# EAGLE library part TCA965B (library 0_HTL_ic)
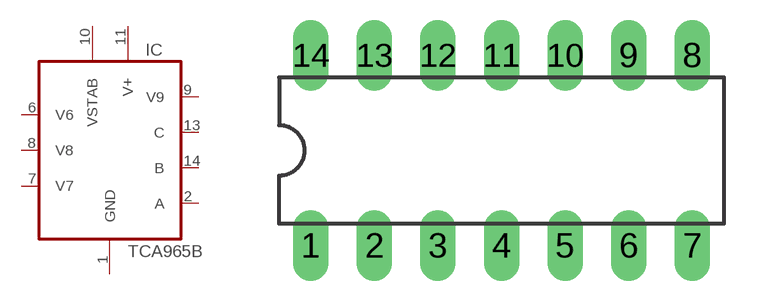
[diagram p3: symbol with the pads of DIL14; footprint DIL14]

Designator prefix IC

## TCA965B  [DIL14]
1  GND  pwr
2  A  out
6  V6  in
7  V7  in
8  V8  in
9  V9  in
10  VSTAB  out
11  V+  pwr
13  C  out
14  B  out

## Footprint DIL14 (pad centres in mm)
Dual In Line Package
drill 0.8 pad 1.422 long: 1 -7.62,-3.81; 2 -5.08,-3.81; 3 -2.54,-3.81; 4 0,-3.81; 5 2.54,-3.81; 6 5.08,-3.81; 7 7.62,-3.81; 8 7.62,3.81; 9 5.08,3.81; 10 2.54,3.81; 11 0,3.81; 12 -2.54,3.81; 13 -5.08,3.81; 14 -7.62,3.81